# Altium footprint library Rocker_Switch.PcbLib: 1 footprints
Each footprint in its own frame and in the unit in brackets; x right, y up, seen from the top. Pads: shape width x height; smd on the part's side, far side on the other; paste and mask are expansions set on the pad; w line width, h text height; cw(c..) or ccw(c..) is an arc to the next point about the centre after c.
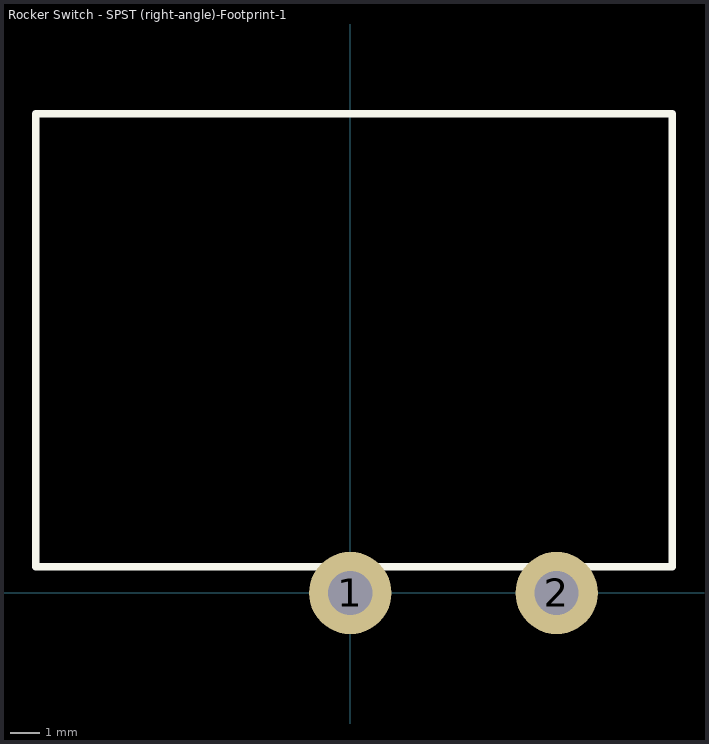
[diagram p0: the footprint, top view; thin cyan lines are the x and y axes]

## Rocker Switch - SPST (right-angle)-Footprint-1 [mil]
pads (2):
  round 110 hole 59.06: 1(0,0) 2(275.59,0)
Top Overlay:
  lines w10: -420,35 430,35 430,640 -420,640 -420,35
3D body: height 582.68, standoff 0, extent -420,35 425,641.82